# Altium integrated library pca10143.IntLib: 110 symbols (part 3 of 3)
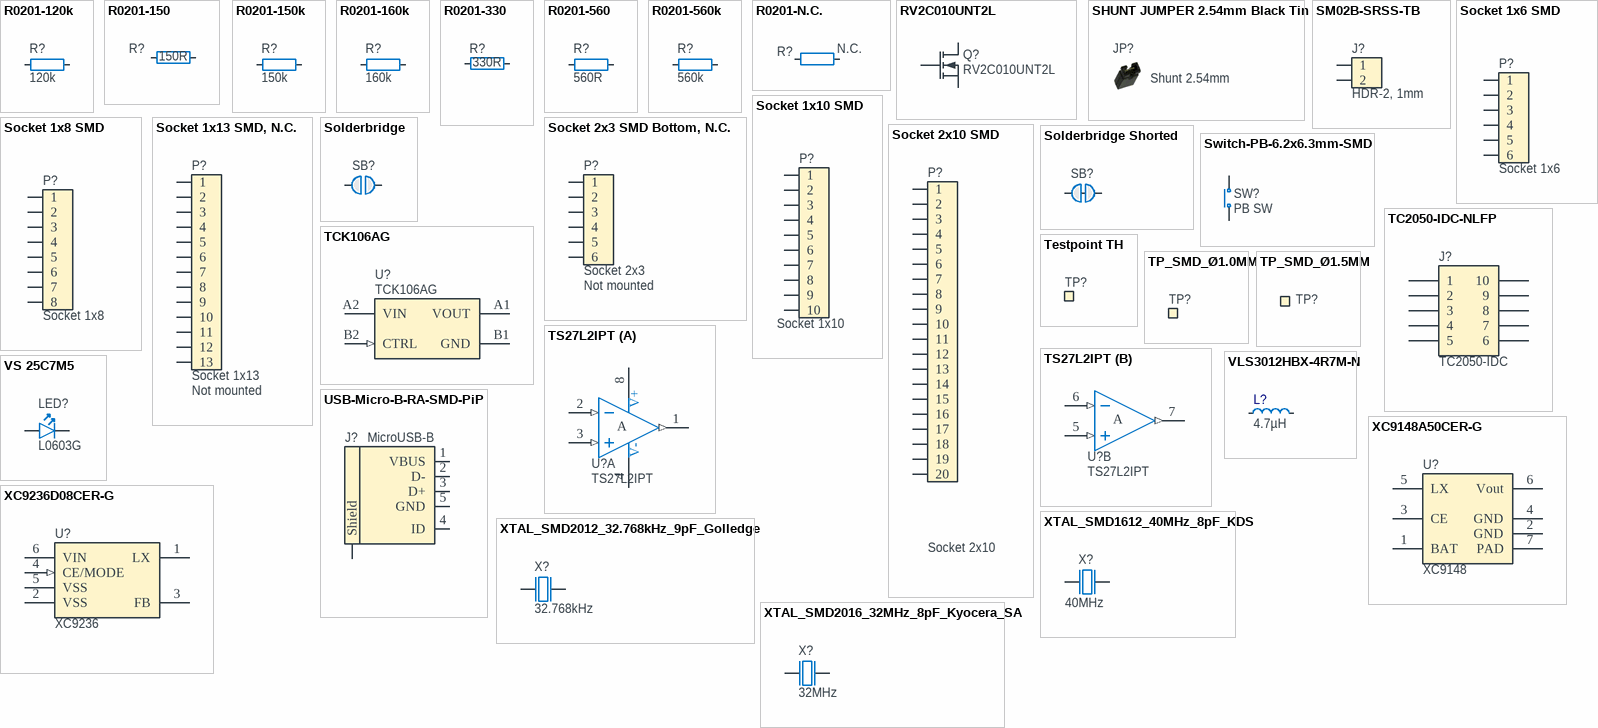
[diagram p4: symbols R0201-120k to XTAL_SMD2016_32MHz_8pF_Kyocera_SA]

## XTAL_SMD2012_32.768kHz_9pF_Golledge
designator X?, comment 32.768kHz
XTAL SMD 2012, 32.768kHz, 9pF, ±20ppm; Part Number: XTAL_SMD2012_32.768kHz_9pF_Golledge; Manufacturer: Golledge; Manufacturer Part Number: MP07668; Part number Norautron: 26470047; Part number NEMS: 101600017; Note: XTAL SMD 32.768kHz; Artikkelnr Noca: N.A.; Pad Count: 2; Component Status: Active; LatestRevisionDate: 2016-11-02; Published: 2016-11-02; Value: 32.768kHz; Footprint Doc: XTAL_2012; Part number IPS: N.A.; ComponentLink1URL: N.A.; ComponentLink1Description: Datasheet; ComponentLink2URL: N.A.; ComponentLink2Description: Supplier link; HelpURL: \\hizz\pro\app9717\Datasheet\crystals\Golledge\mp07668.pdf; Supplier 1: Link Nordic; Supplier Part Number 1: N.A.; Supplier 2: N.A.; Supplier Part Number 2: N.A.; Component Class: Oscillators; PartId: 101600017; Author: rsk
footprint XTAL_2012
pins: 1 inp, 2 out

## XTAL_SMD2016_32MHz_8pF_Kyocera_SA
designator X?, comment 32MHz
XTAL SMD 2016, 32MHz, Cl=8pF, ±30ppm, -40°C ~ 105°C; Part Number: XTAL_SMD2016_32MHz_8pF_Kyocera_SA; Manufacturer: Kyocera; Manufacturer Part Number: CX2016SA32000D0WRQG1; Part number NEMS: 101600100; Note: XTAL SMD 32.000MHz; Artikkelnr Noca: N.A.; Pad Count: 4; Component Status: Active; LatestRevisionDate: 2022-09-19; Published: 2022-09-19; Value: 32MHz; Footprint Doc: XTAL_2016; Part number IPS: N.A.; ComponentLink1URL: N.A.; ComponentLink1Description: Datasheet; ComponentLink2URL: N.A.; ComponentLink2Description: Supplier link; HelpURL: N.A.; Supplier 1: N.A.; Supplier Part Number 1: N.A.; Supplier 2: N.A.; Supplier Part Number 2: N.A.; Component Class: Oscillators; Author: hany; Part number Norautron: N.A.; PartId: 101600100
footprint BT-XTAL_2016
pins: 1 inp, 2 GND hidden to GND, 3 out, 4 GND hidden to GND